# EAGLE library part MPL3115A2 (library sensors)
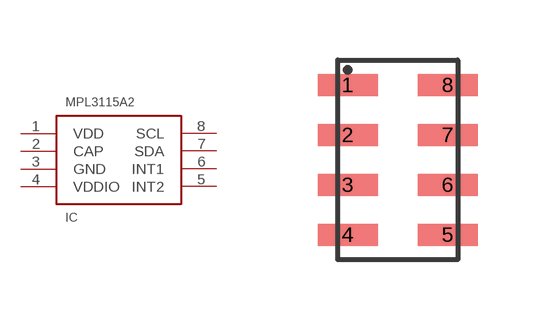
[diagram p2: symbol with the pads of LGA8; footprint LGA8]

Designator prefix IC

## MPL3115A2  [LGA8]
1  VDD  pwr
2  CAP  oc
3  GND  pwr
4  VDDIO  pwr
5  INT2  out
6  INT1  out
7  SDA
8  SCL

## Footprint LGA8 (pad centres in mm)
smd 1.5 x 0.55: 1 -1.25,1.875; 2 -1.25,0.625; 3 -1.25,-0.625; 4 -1.25,-1.875; 5 1.25,-1.875; 6 1.25,-0.625; 7 1.25,0.625; 8 1.25,1.875